# Altium footprint library МЦТР.00010592.00.002.PcbLib: 25 footprints (part 1 of 2)
Each footprint in its own frame and in the unit in brackets; x right, y up, seen from the top. Pads: shape width x height; smd on the part's side, far side on the other; paste and mask are expansions set on the pad; w line width, h text height; cw(c..) or ccw(c..) is an arc to the next point about the centre after c.
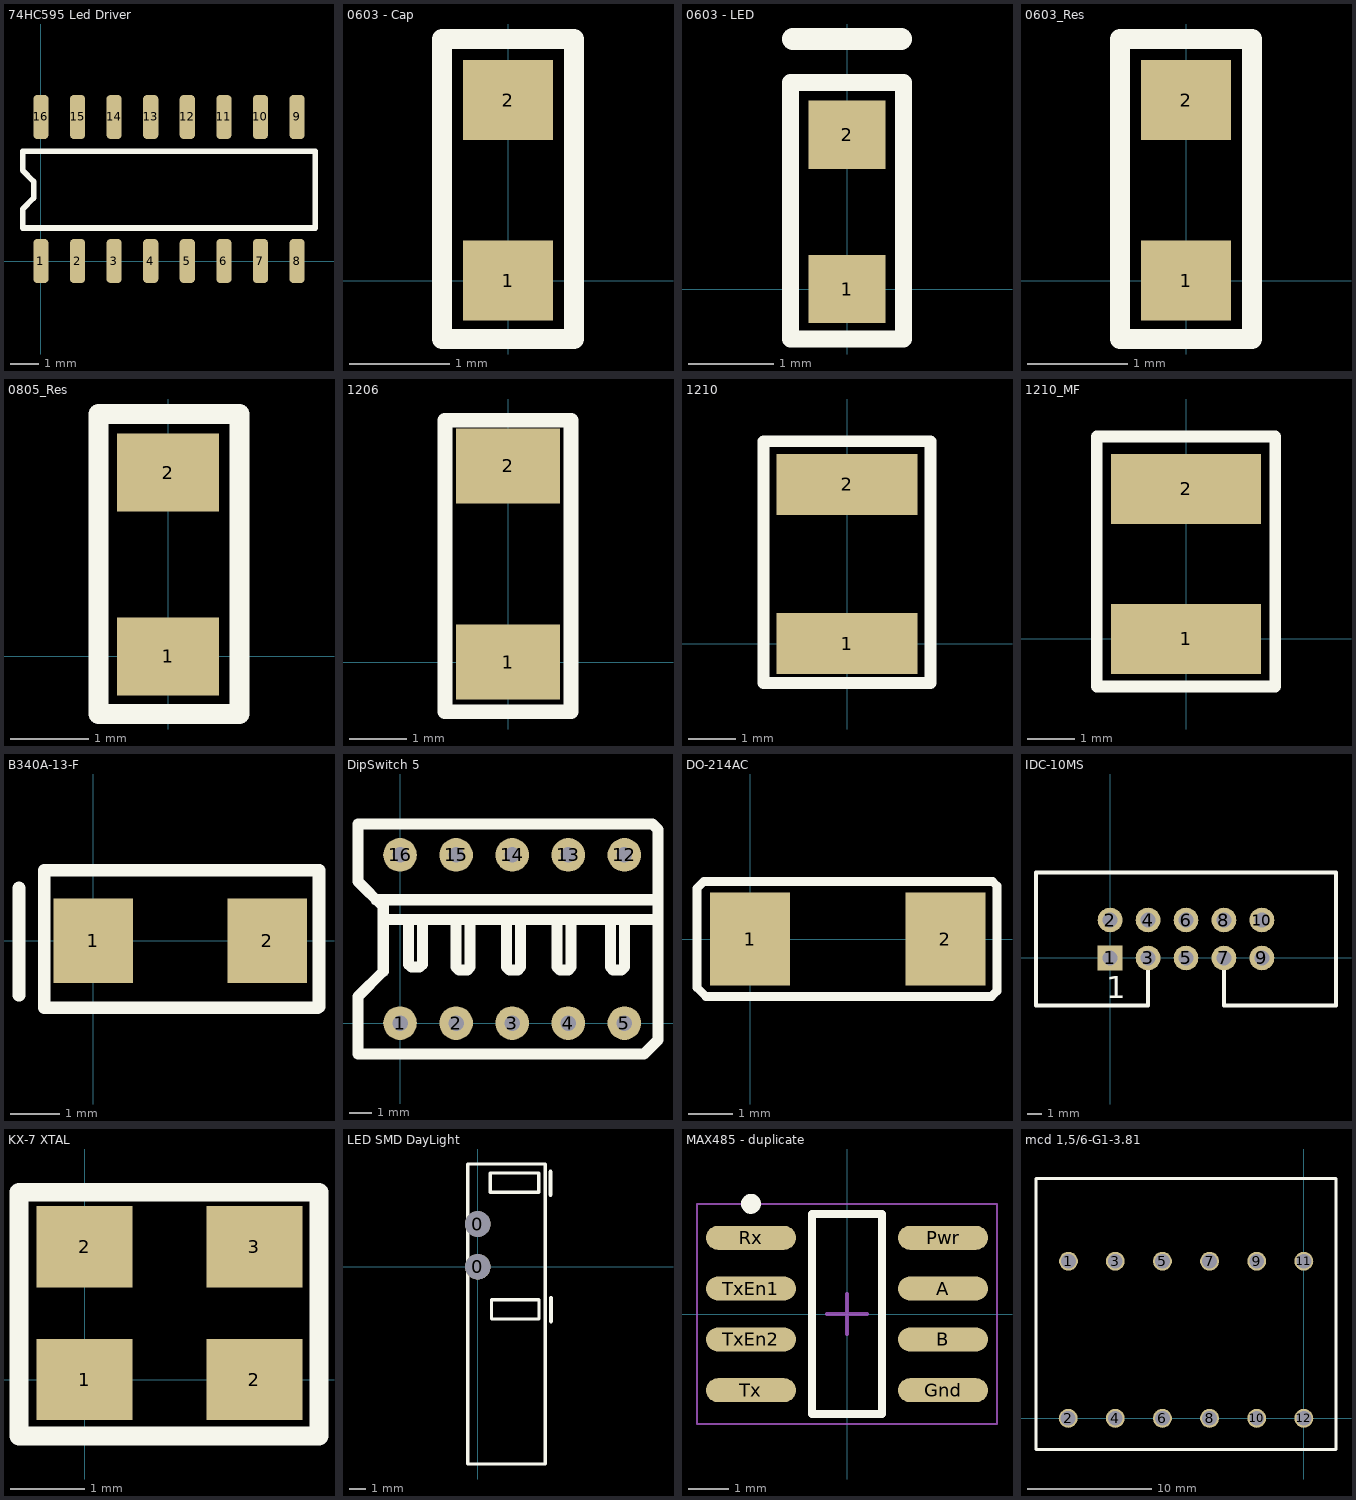
[diagram p0: the footprints below, top view; thin cyan lines are the x and y axes]

## 74HC595 Led Driver [mil]
pads (16):
  rrect50% 20.63x60 smd: 1(0,0) 2(50,0) 3(100,0) 4(150,0) 5(200,0) 6(250,0) 7(300,0) 8(350,0) 9(350,196.85) 10(300,196.85) 11(250,196.85) 12(200,196.85) 13(150,196.85) 14(100,196.85) 15(50,196.85) 16(0,196.85)
Top Overlay:
  lines w7.87: -25,45 -25,71.25 -10,86.25 -10,108.75 -25,123.75 -25,150 375,150 375,45 -25,45
3D body "74HC595D,118.STEP": height 68.9, standoff 0, extent -19.89,-18.1 369.88,218.12

## 0603 - Cap [mm]
height 1
pads (2):
  rect 0.9x0.8 smd mask+0.102: 1(0,0) 2(0,1.803)
Top Overlay:
  lines w0.2: -0.66,-0.584 -0.66,2.413 0.66,2.413 0.66,-0.584 -0.66,-0.584
3D body "0603CAP.STEP": height 0.9, standoff 0, extent -0.4,0.089 0.4,1.689

## 0603 - LED [mm]
height 1
pads (2):
  rect 0.9x0.8 smd mask+0.102: 1(0,0) 2(0,1.803)
Top Overlay:
  lines w0.2: -0.66,-0.584 -0.66,2.413 0.66,2.413 0.66,-0.584 -0.66,-0.584
  lines w0.254: -0.635,2.921 0.635,2.921
3D body "598-8060-102F.STEP": height 0.7, standoff 0, extent -0.4,0.089 0.4,1.689

## 0603_Res [mm]
height 1
pads (2):
  rect 0.9x0.8 smd mask+0.102: 1(0,0) 2(0,1.803)
Top Overlay:
  lines w0.2: -0.66,-0.584 -0.66,2.413 0.66,2.413 0.66,-0.584 -0.66,-0.584
3D body "0603RES.STEP": height 0.55, standoff 0, extent -0.4,0.089 0.4,1.689

## 0805_Res [mm]
height 1
pads (2):
  rect 1.3x1 smd: 1(0,0) 2(0,2.35)
Top Overlay:
  lines w0.254: -0.889,-0.737 0.914,-0.737 0.914,3.099 -0.889,3.099 -0.889,-0.737
3D body "Res 0805.STEP": height 0.6, standoff 0, extent -0.625,0.143 0.625,2.143

## 1206 [mm]
height 2
pads (2):
  rect 1.8x1.3 smd: 1(0,0) 2(0,3.4)
Top Overlay:
  lines w0.254: -1.092,-0.864 -1.092,4.191 1.092,4.191 1.092,-0.864 -1.092,-0.864
3D body "1206CAP.STEP": height 1.8, standoff 0, extent -0.8,-0.076 0.8,3.124

## 1210 [mm]
height 2
pads (2):
  rect 3x1.3 smd: 1(0,0) 2(0,3.4)
Top Overlay:
  lines w0.254: -1.778,-0.838 1.778,-0.838 1.778,4.318 -1.778,4.318 -1.778,-0.838
3D body "1210-RES.STEP": height 2.7, standoff 0, extent -1.25,0.051 1.25,3.251

## 1210_MF [mm]
height 2
pads (2):
  rect 3.2x1.5 smd: 1(0,0) 2(0,3.2)
Top Overlay:
  lines w0.254: -1.905,-1.016 1.905,-1.016 1.905,4.318 -1.905,4.318 -1.905,-1.016
3D body "0ZCH0050FF2G.STEP": height 1.2, standoff 0, extent -1.288,-0.083 1.287,3.132

## B340A-13-F [mm]
height 2
pads (2):
  rect 1.6x1.7 smd: 1(0,0) 2(3.5,0)
Top Overlay:
  lines w0.254: -1.499,-1.092 -1.499,1.067 ; 4.521,-1.346 -0.991,-1.346 -0.991,1.422 4.547,1.422 4.547,-1.327
3D body "B340A-13-F.STEP": height 2.62, standoff 0, extent -0.919,-1.28 4.221,1.28

## DipSwitch 5 [mil]
pads (10):
  round 60 hole 27.56: 1(0,0) 2(100,0) 3(200,0) 4(300,0) 5(400,0) 12(400,300) 13(300,300) 14(200,300) 15(100,300) 16(0,300)
Top Overlay:
  lines w19.68: -42.5,220 455,220 ; -30,185 455,185 ; 15,180 15,105 20,100 35,100 40,105 40,180 ; 100,185 100,100 105,95 120,95 125,100 125,185 ; 190,185 190,100 195,95 210,95 215,100 215,185 ; 280,185 280,100 285,95 300,95 305,100 305,185 ; 375,185 375,100 380,95 395,95 400,100 400,185 ; -75,-55 435,-55 460,-30 460,345 450,355 -75,355 -75,252.5 -30,207.5 -30,92.5 -75,47.5 -75,-55
3D body "DS03-254-05BE--3DModel-STEP-1.STEP": height 389.76, standoff -111.79, extent -79.99,-84.2 475.91,306.53

## DO-214AC [mm]
pads (2):
  rect 1.8x2.1 smd: 1(0,0) 2(4.4,0)
Top Overlay:
  lines w0.2: -1.194,-1.092 -0.991,-1.295 5.436,-1.295 5.563,-1.168 5.563,1.194 5.461,1.295 -1.041,1.295 -1.194,1.143 -1.194,-1.092
3D body "SMAJ5.0CA.STEP": height 2.4, standoff 0, extent -0.446,-1.302 4.764,1.303

## IDC-10MS [mm]
pads (10):
  rect 1.65x1.65 hole 1: 1(0,0)
  round 1.65 hole 1: 2(0,2.54) 3(2.54,0) 4(2.54,2.54) 5(5.08,0) 6(5.08,2.54) 7(7.62,0) 8(7.62,2.54) 9(10.16,0) 10(10.16,2.54)
Top Overlay:
  lines w0.254: 2.54,-0.254 2.54,-3.175 -4.953,-3.175 -4.953,5.715 7.62,5.715 15.113,5.715 15.113,-3.175 7.62,-3.175 7.62,-0.254
  text "1" at -0.25,-2.7 h1.5
3D body "IDC-10.STEP": height 9.1, standoff -3.1, extent -4.943,-3.28 15.357,5.82

## KX-7 XTAL [mm]
height 1
pads (4):
  rect 1.3x1.1 smd: 1(0,0) 2(0,1.8) 2(2.3,0) 3(2.3,1.8)
Top Overlay:
  lines w0.254: -0.889,-0.762 -0.889,2.54 3.175,2.54 3.175,-0.762 -0.889,-0.762
3D body "KX7T.STEP": height 0.8, standoff 0, extent -0.457,-0.361 2.743,2.139

## LED SMD DayLight [mm]
pads (2):
  round 1.52 hole 1.52 paste+0 mask+0: 0(0,0) 0(0,2.54)
Top Overlay:
  lines w0.2: -0.6,1.905 -0.6,6.1 4,6.1 4,-11.7 -0.6,-11.7 -0.6,2.54 ; 0.737,4.42 3.607,4.42 3.607,5.563 0.737,5.563 0.737,4.42 ; 0.813,-3.099 3.632,-3.099 3.632,-1.956 0.813,-1.956 0.813,-3.099
  lines w0.254: 4.318,4.267 4.318,5.639 ; 4.343,-3.226 4.343,-1.854

## MAX485 - duplicate [mm] "SOIC, 8-Leads, Body 4,90x3,90mm, Pitch 1,27mm, IPC Medium Density"
height 1.65
pads (8):
  oval 2.25x0.6 smd: A(2.4,0.635) B(2.4,-0.635) Gnd(2.4,-1.905) Pwr(2.4,1.905) Rx(-2.4,1.905) Tx(-2.4,-1.905) TxEn1(-2.4,0.635) TxEn2(-2.4,-0.635)
Top Overlay:
  circle w0.25: c-2.4,2.755 r0.125
  lines w0.2: -0.875,-2.5 -0.875,2.5 0.875,2.5 0.875,-2.5 -0.875,-2.5
Mechanical 15:
  lines w0.05: -3.75,-2.75 3.75,-2.75 3.75,2.75 -3.75,2.75 -3.75,-2.75
  lines w0.1: -0.5,0 0.5,0 ; 0,-0.5 0,0.5
3D body "SOIC8.STEP": height 1.75, standoff 0, extent -2.995,-2.452 2.995,2.453

## mcd 1,5/6-G1-3.81 [mil]
height 43.31
pads (12):
  round 60 hole 47.24: 1(-749,500) 2(-750,0) 3(-600,500) 4(-600,0) 5(-450,500) 6(-450,0) 7(-300,500) 8(-300,0) 9(-150,500) 10(-150,0) 11(0,500) 12(0,0)
Top Overlay:
  lines w10: -852.36,-98.43 -852.36,762.8 ; -852,762.8 102,763 ; -851.58,-99 102,-99 ; 102.36,-98.43 102.36,762.8
3D body "MCD 15.6-G1-3.81.STEP": height 893.7, standoff -137.8, extent -849.72,-55 105,807.2